# Altium schematic symbol library M7_DSP.SchLib: 35 symbols
Pins are listed as number, name and electrical type; pins without a type are passive.

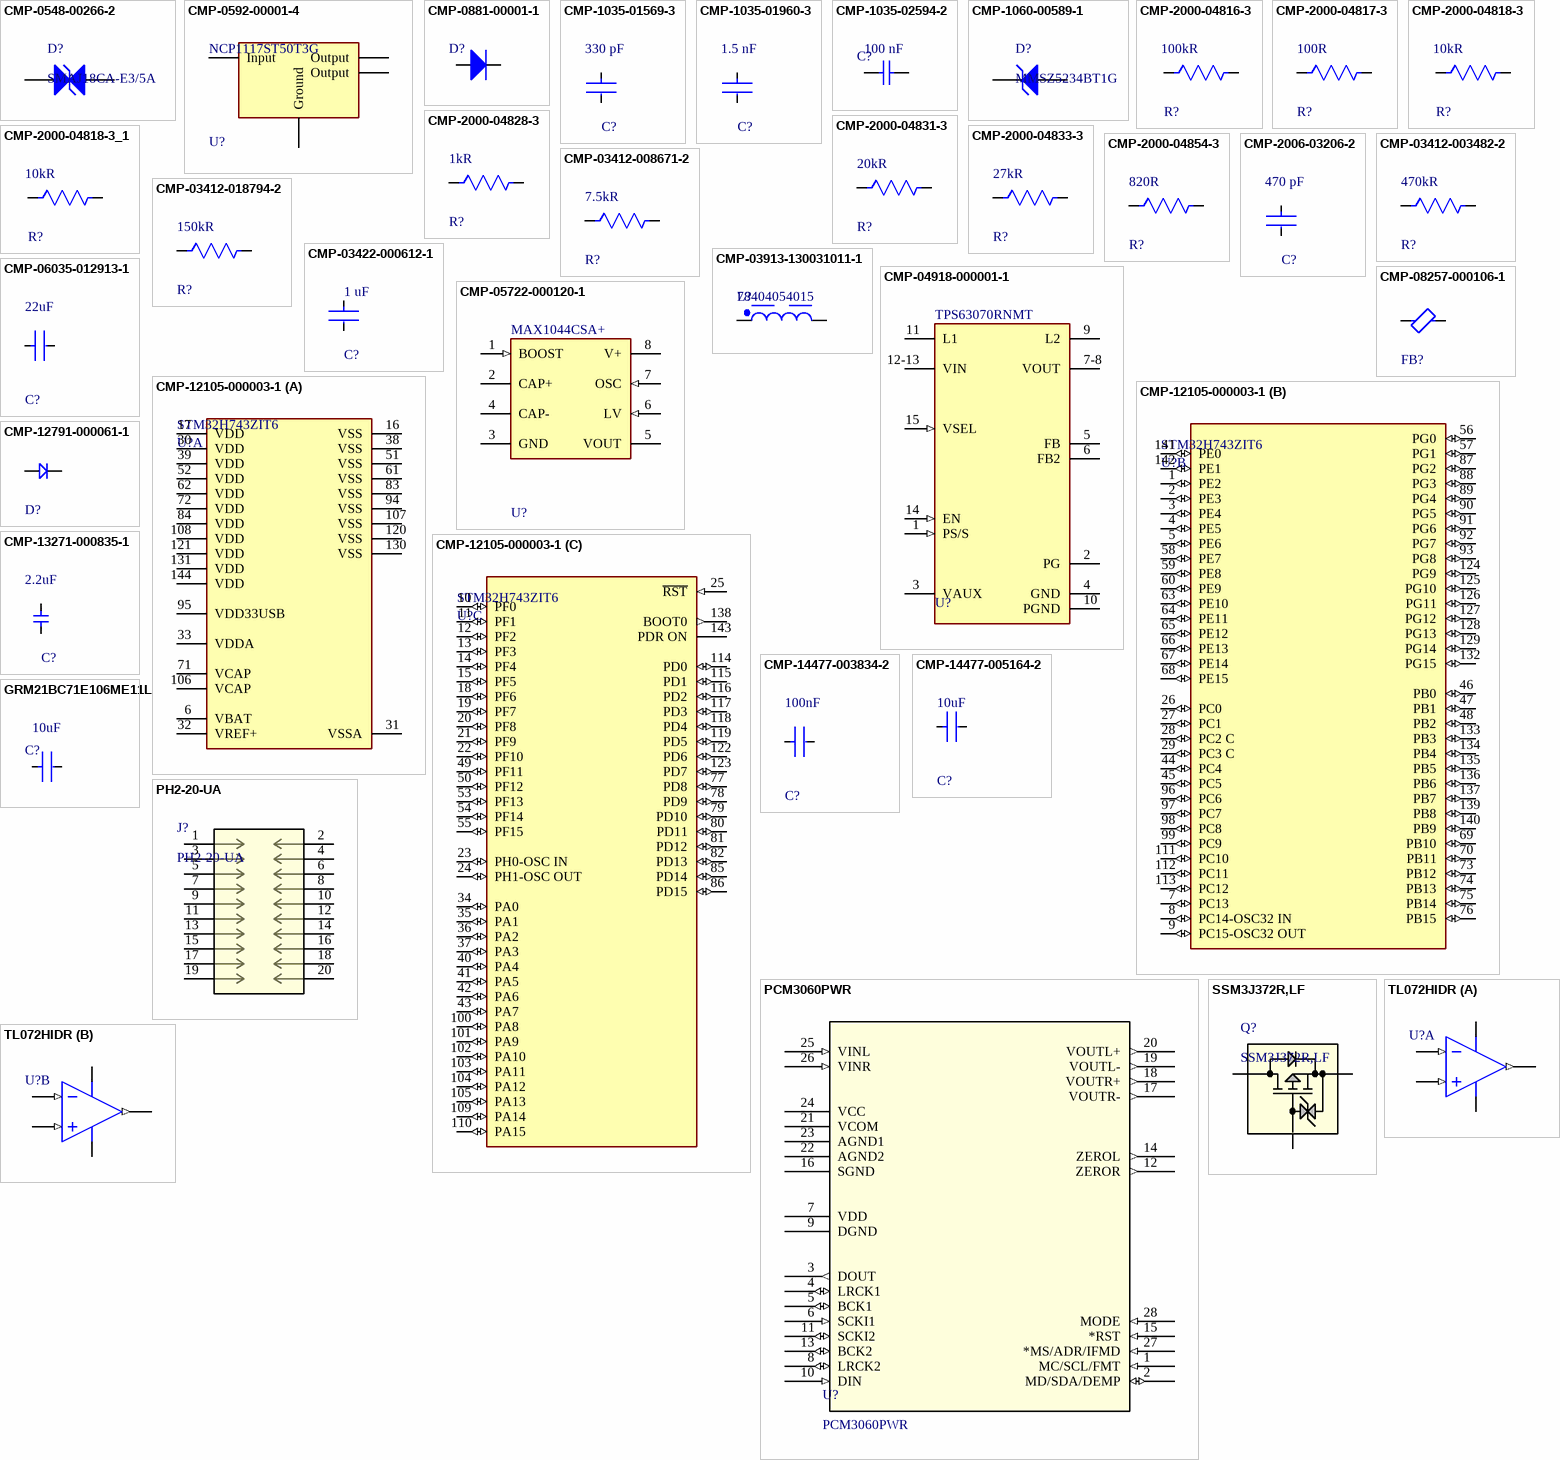
[diagram p0: symbols CMP-0548-00266-2 to TL072HIDR]

## CMP-0548-00266-2
designator D?, comment SMAJ18CA-E3/5A
Transient Voltage Suppressor, 6.40 to 231 V, 18 V Stand-off Voltage, Bi-Directional, -55 to 155 degC, 2-pin DO-214AC, Pb-Free, Tape and Reel; Manufacturer: Vishay Semiconductor; VWM (V): 18; VBR Bi-Directional (V): 6.4 to 231; ID (uA): 2; IFSM: 40 A; PPPM (W): 400, 300; ComponentLink1URL: http://www.vishay.com/; PackageDescription: 2-Pin DO-214AC (SMA), Body 4.245 x 2.665 mm; ComponentLink2URL: http://www.vishay.com/docs/88390/smaj50a.pdf; Packing: Tape and Reel; DatasheetVersion: 12/8/2013; RoHS: TRUE; ComponentLink2Description: Datasheet; Mounting Technology: Surface Mount; PackageReference: DO-214AC-2; PartNumber: SMAJ18CA-E3/5A; ComponentLink1Description: Manufacturer URL; Operating Junction and Storage Temperature Range: -55 to 150 degC; ComponentLink3Description: Package Specification; ComponentLink3URL: http://www.vishay.com/docs/88390/smaj50a.pdf; Supplier 1: Mouser; Supplier Part Number 1: 625-SMAJ18CA-E3/5A
footprint VISH-DO-214AC-2_L (DO-214AC, 2-Leads, Body 4.5x2.79mm, IPC High Density)
footprint VISH-DO-214AC-2_N (DO-214AC, 2-Leads, Body 4.5x2.79mm, IPC Medium Density)
footprint VISH-DO-214AC-2_M (DO-214AC, 2-Leads, Body 4.5x2.79mm, IPC Low Density)
pins: 1 A1, 2 A2

## CMP-0592-00001-4
designator U?, comment NCP1117ST50T3G
IC REG LINEAR 5V 1A SOT223; Output Voltage Accuracy: 1%; Number of Outputs: 1; Dropout Voltage: 1.2V; Polarity: Positive; Power Rating: 781mW; Input Bias Current: 6mA; Quiescent Current: 10mA; Output Type: Fixed; Max Input Voltage: 20V; Min Input Voltage: 3.5V; Max Operating Temperature: 125°C; Number of Pins: 4; Case/Package: SOT-223; Min Operating Temperature: 0°C; Accuracy: 1%; Contact Plating: Tin; Min Current Limit: 1A; Output Current: 1A; Max Output Current: 1A; Length: 6.7mm; Packaging: Tape and Reel; Package Quantity: 1; Height: 1.69mm; REACH SVHC: No SVHC; Width: 3.7mm; Halogen Free: Halogen Free; RoHS Compliant: Yes; Nominal Output Voltage: 5V; Lead Free: Lead Free; Radiation Hardening: No; Tolerance: 1%; Number of Regulators: 1; Output Voltage: 5V; Supplier 1: Digikey; Supplier Part Number 1: NCP1117ST50T3GOSCT-ND
footprint FP-318H-MFG
pins: 1 Ground (power), 2 Output (power), 3 Input (power), 4 Output (power)

## CMP-0881-00001-1
designator D?, comment 1N4148WT  (value not drawn)
High Conductance Fast Switching Diode, 75 V, -55 to 150 degC, 2-Pin SOD523F, RoHS; Manufacturer: Fairchild Semiconductor; IR (VR: 75 V)=5 uA Max.; VF: 1 V Max.; BVR (IR: 5 uA)=75 V Min.; CO: 4 pF Max.; DatasheetVersion: Rev. A2; ComponentLink1Description: Manufacturer URL; PackageDescription: 2-Pin Surface Mount Device, Body 1.2 x 0.8 mm, Height 0.7 mm; ComponentLink2URL: http://www.fairchildsemi.com/ds/1N/1N4148WT.pdf; ComponentLink2Description: Datasheet; PartNumber: 1N4148WT; ComponentLink1URL: http://www.fairchildsemi.com/; Temperature Range: -55 to 150 degC; Mounting Technology: Surface Mount; PackageReference: SOD-523F-2; RoHS: TRUE; Supplier 1: Future Electronics; Supplier Part Number 1: 4906632
footprint FAIR-SOD-523F-2_V (SMD, 2-Leads, Body 1.2x0.8mm, Height 0.7mm)
pins: 1 K, 2 A

## CMP-1035-01569-3
designator C?, comment value 330 pF  (hidden comment: C0603C331F5GACTU)
CAP CER 330PF 50V 1% NP0 0603; Manufacturer: KEMET; Temperature Coefficient: 30ppm/°C; Temperature Characteristic: C0G; Material: Ceramic; Tolerance: 0.01; Automotive Grade: Grade 1; Voltage Rating: 50 V; Temperature: -55°C to +125°C; Temperature Range High: +125°C; ComponentLink2Description: Datasheet; Automotive: Yes; Octopart: https://octopart.com/c0603c331f5gactu-kemet-9142706; Temperature Range Low: -55°C; ComponentLink2URL: https://api.kemet.com/component-edge/download/datasheet/C0603C100J5GACAUTO.pdf; Device Class L1: Passive Components; Mouser Description: Multilayer Ceramic Capacitors MLCC - SMD/SMT 50volts 330pF C0G 1%; Capacitance: 330 pF; Device Class L3: Ceramic Capacitors; Manufacturer Part Number: C0603C331F5GACTU; Height: 0.87mm; RoHS: TRUE; Device Class L2: Capacitors; Package: C0603C-CF; Digikey Description: CAP CER 330PF 50V 1% NP0 0603; Category: Cap; Lead Free: Yes; Supplier 1: Mouser; Supplier Part Number 1: 80-C0603C331F5G
footprint FP-C0603C-CF-IPC_B
footprint FP-C0603C-CF-MFG
footprint FP-C0603C-CF-IPC_A
footprint FP-C0603C-CF-IPC_C
pins: 1, 2

## CMP-1035-01960-3
designator C?, comment Capacitance: 1.5 nF  (hidden comment: C0603C152F5GACTU)
Cap Ceramic 0.0015uF 50V C0G 1% SMD 0603 125°C Punched Paper T/R; Manufacturer: KEMET; Automotive Grade: Grade 1; Temperature Coefficient: 30ppm/°C; Tolerance: 0.01; Value: 1.5 nF; ComponentLink2Description: Datasheet; Lead Free: Yes; Digikey Description: Cap Ceramic 0.0015uF 50V C0G 1% SMD 0603 125°C Punched Paper T/R; Temperature: -55°C to +125°C; Voltage Rating: 50 V; Category: Cap; Device Class L2: Capacitors; Temperature Range Low: -55°C; Temperature Characteristic: C0G; Package: C0603C-CF; Manufacturer Part Number: C0603C152F5GACTU; Octopart: https://octopart.com/c0603c152f5gactu-kemet-10304761; ComponentLink2URL: https://api.kemet.com/component-edge/download/datasheet/C0603C100J5GACAUTO.pdf; Material: Ceramic; Automotive: Yes; RoHS: TRUE; Device Class L1: Passive Components; Device Class L3: Ceramic Capacitors; Mouser Description: Cap Ceramic 0.0015uF 50V C0G 1% SMD 0603 125°C Punched Paper T/R; Height: 0.87mm; Temperature Range High: +125°C; Supplier 1: Mouser; Supplier Part Number 1: 80-C0603C152F5G
footprint FP-C0603C-CF-IPC_B
footprint FP-C0603C-CF-MFG
footprint FP-C0603C-CF-IPC_A
footprint FP-C0603C-CF-IPC_C
pins: 1, 2

## CMP-1035-02594-2
designator C?, comment Capacitance: 100 nF  (hidden comment: CC0603ZRY5V9BB104)
Chip Capacitor, 100 nF, - 20% to + 80%, 50 V, -30 to 85 degC, 0603 (1608 Metric), RoHS, Tape and Reel; Manufacturer: Yageo; Tolerance: -20%,+80%; Product Training Modules: MultilayerCeramicCapacitors; Temperature Coefficient: Y5V(F); Kits: CC060300000000000-ND-MLCC0603SAMPLEKIT; Other Names: 311-1343-1; Featured Product: CommodityMultilayerCeramicCapacitors–CCSeries; Online Catalog: CCSeries; Voltage - Rated: 50V; Mounting Type: SurfaceMount,MLCC; Package Description: 2-Pin Surface Mount Device, Body 1.6 x 0.8 mm; Ratings: -; Lead Spacing: -; Standard Package: 1; Applications: GeneralPurpose; Size / Dimension: 0.063"Lx0.031"W(1.60mmx0.80mm); Package Reference: 0603; Operating Temperature: -30°C~85°C; Features: -; Height - Seated (Max): -; Thickness (Max): 0.035"(0.90mm); Series: CC; Datasheet URL: https://datasheet.ciiva.com/17434/upy-gphc-y5v-6-3v-to-50v-5-17434523.pdf; Family: CeramicCapacitors; Mounting Technology: SurfaceMount; Packaging: CutTape(CT); Package / Case: 0603(1608Metric); Manufacturer URL: http://www.yageo.com/; Category: Capacitors; Lead Style: -; Datasheet Version: Rev. 5, 07/2010; Supplier 1: Rs; Supplier Part Number 1: 6169565
footprint CAPC1608X90X40ML10T20 (Chip Capacitor, 2-Leads, Body 1.7x0.9mm, IPC Low Density)
footprint CAPC1608X90X40LL10T20 (Chip Capacitor, 2-Leads, Body 1.70x0.90mm, IPC High Density)
footprint CAPC1608X90X40NL10T20 (Chip Capacitor, 2-Leads, Body 1.70x0.90mm, IPC Medium Density)
pins: 1, 2

## CMP-1060-00589-1
designator D?, comment MMSZ5234BT1G
Zener Voltage Regulator, 500 mW, 2-Pin SOD-123, Pb-Free, Tape and Reel; Manufacturer: On Semiconductor; P Max (W): 0.5; VZ Typ (V): 6.2; ComponentLink3Description: Package Specification; PartNumber: MMSZ5234BT1G; ComponentLink2Description: Datasheet; Packing: Tape and Reel; Mounting Technology: Surface Mount; ComponentLink3URL: http://www.onsemi.com/pub_link/Collateral/425-04.PDF; DatasheetVersion: Rev. 12; ComponentLink1Description: Manufacturer URL; PackageDescription: 2-Pin SOD, Body 1.6 x 2.69 mm; PackageVersion: Rev. G, 10/2009; ComponentLink2URL: http://www.onsemi.com/pub_link/Collateral/MMSZ5221BT1-D.PDF; RoHS: Pb-Free; ComponentLink1URL: http://www.onsemi.com/; PackageReference: SOD-123-2-425-04; Supplier 1: Future Electronics; Supplier Part Number 1: 5159872
footprint ONSC-SOD-123-2-425-04_V (SOD, 2-Leads, Body 2.69x1.6mm)
pins: 1 K, 2 A

## CMP-2000-04816-3
designator R?, comment Resistance: 100kR  (hidden comment: AC0603FR-07100KL)
RES 100KΩ 1.00% 0.1W 0603; Temperature Coefficient: 100ppm/°C; Voltage Rating: 50V; Max Power Dissipation: 100mW; Tolerance: 1%; Working Voltage: 75V; Min Operating Temperature: -55°C; Case Code (Imperial): 0603; Width: 0.031inch; Max Operating Temperature: 155°C; Military Standard: Not; Technology: THICK FILM; Ratings: AEC-Q200; Features: Moisture Resistant; Construction: Rectangular; Resistor Type: Thick Film; RoHS Compliant: Yes; Case Code (Metric): 1608; Termination: SMD/SMT; Series: AC; Lead Free: Lead Free; Length: 1.6mm; Depth: 0.8mm; Height: 0.022inch; Power Rating: 100mW; Package Quantity: 1; Packaging: Tape and Reel; Case/Package: 0603; Number of Terminations: 2; Moisture Sensitivity Level: 1; Supplier 1: Future Electronics; Supplier Part Number 1: 6029288
footprint FP-AC0603-IPC_C
footprint FP-AC0603-IPC_B
footprint FP-AC0603-MFG
footprint FP-AC0603-IPC_A
pins: 1, 2

## CMP-2000-04817-3
designator R?, comment Resistance: 100R  (hidden comment: AC0603FR-07100RL)
RES 100Ω 1.00% 0.1W 0603; Temperature Coefficient: 100ppm/°C; Voltage Rating: 50V; Max Power Dissipation: 100mW; Tolerance: 1%; Series: AC; Height: 0.45mm; Max Operating Temperature: 155°C; Depth: 0.8mm; Lead Free: Lead Free; Packaging: Tape and Reel; Min Operating Temperature: -55°C; Number of Terminations: 2; Length: 1.6mm; RoHS Compliant: Yes; Contact Plating: Tin; Construction: Rectangular; Radiation Hardening: No; Width: 0.8mm; Power Rating: 100mW; Ratings: AEC-Q200; Termination: SMD/SMT; Resistor Type: Thick Film; Weight: 7.1E-05oz; Case Code (Metric): 1608; Military Standard: Not; Case Code (Imperial): 0603; Size Code: 0603; Features: Moisture Resistant; Case/Package: 0603; Supplier 1: Future Electronics; Supplier Part Number 1: 2026405
footprint FP-AC0603-IPC_C
footprint FP-AC0603-IPC_B
footprint FP-AC0603-MFG
footprint FP-AC0603-IPC_A
pins: 1, 2

## CMP-2000-04818-3
designator R?, comment Resistance: 10kR  (hidden comment: AC0603FR-0710KL)
RES 10KΩ 1.00% 0.1W 0603; Power Rating: 100mW; Tolerance: 1%; Voltage Rating: 50V; Temperature Coefficient: 100ppm/°C; Ratings: AEC-Q200; Case Code (Metric): 1608; Max Power Dissipation: 100mW; Height: 0.45mm; Package Quantity: 1; Max Operating Temperature: 155°C; Resistor Type: Thick Film; Depth: 0.8mm; RoHS Compliant: Yes; Min Operating Temperature: -55°C; Packaging: Tape and Reel; Number of Terminations: 2; Length: 1.6mm; Features: Moisture Resistant; Military Standard: Not; Case Code (Imperial): 0603; Size Code: 0603; Termination: SMD/SMT; Case/Package: 0603; Mount: Surface Mount; Width: 0.8mm; Lead Free: Lead Free; Series: AC; Construction: Rectangular; Supplier 1: Future Electronics; Supplier Part Number 1: 2029400
footprint FP-AC0603-IPC_C
footprint FP-AC0603-IPC_B
footprint FP-AC0603-MFG
footprint FP-AC0603-IPC_A
pins: 1, 2

## CMP-2000-04818-3_1
designator R?, comment Resistance: 10kR  (hidden comment: AC0603FR-0710KL)
RES 10KΩ 1.00% 0.1W 0603; Power Rating: 100mW; Tolerance: 1%; Voltage Rating: 50V; Temperature Coefficient: 100ppm/°C; Ratings: AEC-Q200; Case Code (Metric): 1608; Max Power Dissipation: 100mW; Height: 0.45mm; Package Quantity: 1; Max Operating Temperature: 155°C; Resistor Type: Thick Film; Depth: 0.8mm; RoHS Compliant: Yes; Min Operating Temperature: -55°C; Packaging: Tape and Reel; Number of Terminations: 2; Length: 1.6mm; Features: Moisture Resistant; Military Standard: Not; Case Code (Imperial): 0603; Size Code: 0603; Termination: SMD/SMT; Case/Package: 0603; Mount: Surface Mount; Width: 0.8mm; Lead Free: Lead Free; Series: AC; Construction: Rectangular; Supplier 1: Future Electronics; Supplier Part Number 1: 2029400
footprint FP-AC0603-IPC_C
footprint FP-AC0603-IPC_B
footprint FP-AC0603-MFG
footprint FP-AC0603-IPC_A
pins: 1, 2

## CMP-2000-04828-3
designator R?, comment Resistance: 1kR  (hidden comment: AC0603FR-071KL)
RES 1kΩ 1.00% 0.1W 0603; Voltage Rating: 50V; Power Rating: 100mW; Tolerance: 1%; Temperature Coefficient: 100ppm/°C; Depth: 0.8mm; Case/Package: 0603; Size Code: 0603; Case Code (Metric): 1608; Height: 0.022inch; Series: AC; Width: 0.031inch; Construction: Rectangular; Length: 0.063inch; Case Code (Imperial): 0603; Package Quantity: 1; RoHS Compliant: Yes; Features: Moisture Resistant; Resistor Type: Thick Film; Max Power Dissipation: 100mW; Packaging: Tape and Reel; Termination: SMD/SMT; Ratings: AEC-Q200; Max Operating Temperature: 155°C; Min Operating Temperature: -55°C; Military Standard: Not; Lead Free: Lead Free; Number of Terminations: 2; Supplier 1: Future Electronics; Supplier Part Number 1: 1029290
footprint FP-AC0603-IPC_C
footprint FP-AC0603-IPC_B
footprint FP-AC0603-MFG
footprint FP-AC0603-IPC_A
pins: 1, 2

## CMP-2000-04831-3
designator R?, comment Resistance: 20kR  (hidden comment: AC0603FR-0720KL)
RES 20KΩ 1.00% 0.1W 0603; Power Rating: 100mW; Temperature Coefficient: 100ppm/°C; Tolerance: 1%; Voltage Rating: 50V; Width: 0.8mm; Case Code (Metric): 1608; Max Operating Temperature: 155°C; Ratings: AEC-Q200; Min Operating Temperature: -55°C; Number of Terminations: 2; RoHS Compliant: Yes; Resistor Type: Thick Film; Height: 0.45mm; Lead Free: Lead Free; Max Power Dissipation: 100mW; Case Code (Imperial): 0603; Case/Package: 0603; Length: 1.6mm; Features: Moisture Resistant; Series: AC; Termination: SMD/SMT; Packaging: Tape and Reel; Supplier 1: Future Electronics; Supplier Part Number 1: 5026404
footprint FP-AC0603-IPC_C
footprint FP-AC0603-IPC_B
footprint FP-AC0603-MFG
footprint FP-AC0603-IPC_A
pins: 1, 2

## CMP-2000-04833-3
designator R?, comment Resistance: 27kR  (hidden comment: AC0603FR-0727KL)
RES 27KΩ 1.00% 0.1W 0603; Power Rating: 100mW; Tolerance: 1%; Temperature Coefficient: 100ppm/°C; Voltage Rating: 50V; Weight: 7.1E-05oz; Resistor Type: Thick Film; Termination: SMD/SMT; Min Operating Temperature: -55°C; Packaging: Tape and Reel; Max Power Dissipation: 100mW; Length: 1.6mm; Series: AC; Ratings: AEC-Q200; Case Code (Imperial): 0603; RoHS Compliant: Yes; Height: 0.45mm; Max Operating Temperature: 155°C; Case Code (Metric): 1608; Features: Moisture Resistant; Width: 0.8mm; Case/Package: 0603; Number of Terminations: 2; Supplier 1: Future Electronics; Supplier Part Number 1: 4029678
footprint FP-AC0603-IPC_C
footprint FP-AC0603-IPC_B
footprint FP-AC0603-MFG
footprint FP-AC0603-IPC_A
pins: 1, 2

## CMP-2000-04854-3
designator R?, comment Resistance: 820R  (hidden comment: AC0603FR-07820RL)
RES 820Ω 1.00% 0.1W 0603; Temperature Coefficient: 100ppm/°C; Working Voltage: 75V; Tolerance: 1%; Voltage Rating: 50V; Max Power Dissipation: 100mW; Case/Package: 0603; Resistor Type: Thick Film; Ratings: AEC-Q200; Length: 1.6mm; Mount: Surface Mount; Width: 0.8mm; Height: 0.45mm; Case Code (Metric): 1608; RoHS Compliant: Yes; Technology: THICK FILM; Packaging: Tape and Reel; Lead Free: Lead Free; Max Operating Temperature: 155°C; Features: Moisture Resistant; Number of Terminations: 2; Series: AC; Case Code (Imperial): 0603; Moisture Sensitivity Level: 1; Min Operating Temperature: -55°C; Power Rating: 100mW; Termination: SMD/SMT; Supplier 1: Future Electronics; Supplier Part Number 1: 8029296
footprint FP-AC0603-IPC_C
footprint FP-AC0603-IPC_B
footprint FP-AC0603-MFG
footprint FP-AC0603-IPC_A
pins: 1, 2

## CMP-2006-03206-2
designator C?, comment Capacitance: 470 pF  (hidden comment: C0603C471F5GACTU)
CAP CER 470PF 50V 1% NP0 0603; Manufacturer: KEMET; Temperature Coefficient: 30ppm/°C; Tolerance: 0.01; Temperature Characteristic: C0G; Automotive Grade: Grade 1; Material: Ceramic; Temperature Range Low: -55°C; ComponentLink2Description: Datasheet; Digikey Description: CAP CER 470PF 50V 1% NP0 0603; Manufacturer Part Number: C0603C471F5GACTU; Device Class L1: Passive Components; Category: Cap; ComponentLink2URL: https://api.kemet.com/component-edge/download/datasheet/C0603C100J5GACAUTO.pdf; Automotive: Yes; Package: C0603C-CF; Value: 470 pF; Octopart: https://octopart.com/c0603c471f5gactu-kemet-9143748; Device Class L3: Ceramic Capacitors; Device Class L2: Capacitors; Temperature Range High: +125°C; RoHS: TRUE; Lead Free: Yes; Height: 0.87mm; Voltage Rating: 50 V; Temperature: -55°C to +125°C; Mouser Description: Cap Ceramic 470pF 50V C0G 1% SMD 0603 125°C Paper T/R; Supplier 1: Mouser; Supplier Part Number 1: 80-C0603C471F5G
footprint FP-C0603C-CF-IPC_B
footprint FP-C0603C-CF-MFG
footprint FP-C0603C-CF-IPC_A
footprint FP-C0603C-CF-IPC_C
pins: 1, 2

## CMP-03412-003482-2
designator R?, comment Resistance: 470kR  (hidden comment: AC0603FR-07470KL)
RES 470KΩ 1.00% 0.1W 0603; Voltage Rating: 50V; Max Power Dissipation: 100mW; Tolerance: 1%; Temperature Coefficient: 100ppm/°C; RoHS Compliant: Yes; Width: 0.8mm; Military Standard: Not; Number of Terminations: 2; Case/Package: 0603; Min Operating Temperature: -55°C; Length: 1.6mm; Construction: Rectangular; Power Rating: 100mW; Ratings: AEC-Q200; Height: 0.45mm; Packaging: Tape and Reel; Case Code (Imperial): 0603; Case Code (Metric): 1608; Termination: SMD/SMT; Max Operating Temperature: 155°C; Features: Moisture Resistant; Series: AC; Depth: 0.8mm; Resistor Type: Thick Film; Supplier 1: Future Electronics; Supplier Part Number 1: 7097719
footprint FP-AC0603-IPC_C
footprint FP-AC0603-IPC_B
footprint FP-AC0603-MFG
footprint FP-AC0603-IPC_A
pins: 1, 2

## CMP-03412-008671-2
designator R?, comment Resistance: 7.5kR  (hidden comment: AC0603FR-077K5L)
RES 7.5KΩ 1.00% 0.1W 0603; Voltage Rating: 50V; Tolerance: 1%; Max Power Dissipation: 100mW; Temperature Coefficient: 100ppm/°C; Case Code (Imperial): 0603; RoHS Compliant: Yes; Height: 0.45mm; Resistor Type: Thick Film; Number of Terminations: 2; Termination: SMD/SMT; Packaging: Tape and Reel; Length: 1.6mm; Width: 0.8mm; Min Operating Temperature: -55°C; Lead Free: Lead Free; Case/Package: 0603; Features: Moisture Resistant; Ratings: AEC-Q200; Power Rating: 100mW; Max Operating Temperature: 155°C; Case Code (Metric): 1608; Series: AC; Supplier 1: Future Electronics; Supplier Part Number 1: 7029296
footprint FP-AC0603-IPC_C
footprint FP-AC0603-IPC_B
footprint FP-AC0603-MFG
footprint FP-AC0603-IPC_A
pins: 1, 2

## CMP-03412-018794-2
designator R?, comment Resistance: 150kR  (hidden comment: AC0603FR-07150KL)
RES 150KΩ 1.00% 0.1W 0603; Power Rating: 100mW; Voltage Rating: 50V; Tolerance: 1%; Temperature Coefficient: 100ppm/°C; Ratings: AEC-Q200; Resistor Type: Thick Film; Series: AC; Termination: SMD/SMT; Width: 0.8mm; Weight: 7.1E-05oz; Height: 0.45mm; Min Operating Temperature: -55°C; Number of Terminations: 2; RoHS Compliant: Yes; Length: 1.6mm; Case Code (Metric): 1608; Features: Moisture Resistant; Max Power Dissipation: 100mW; Case Code (Imperial): 0603; Case/Package: 0603; Max Operating Temperature: 155°C; Packaging: Tape and Reel; Supplier 1: Future Electronics; Supplier Part Number 1: 5095701
footprint FP-AC0603-IPC_C
footprint FP-AC0603-IPC_B
footprint FP-AC0603-MFG
footprint FP-AC0603-IPC_A
pins: 1, 2

## CMP-03422-000612-1
designator C?, comment Capacitance: 1 uF  (hidden comment: CC0603KRX5R8BB105)
CAP CER 1UF 25V X5R 0603; Manufacturer: YAGEO; Material: Ceramic; Tolerance: 0.1; Temperature Coefficient: 15%; Automotive: No; Octopart: https://octopart.com/cc0603krx5r8bb105-yageo-9292811; Package: CC0603-DA; Temperature Range High: +125°C; Digikey Description: CAP CER 1UF 25V X5R 0603; Mouser Description: Multilayer Ceramic Capacitors MLCC - SMD/SMT 1.0uF 25V X5R 10%; Device Class L2: Capacitors; Category: Cap; Temperature: -55°C to +125°C; ComponentLink2URL: http://www.yageo.com/documents/recent/UPY-GPHC_X7R_6.3V-to-50V_18.pdf; ComponentLink2Description: Datasheet; Voltage: 25 V; Manufacturer Part Number: CC0603KRX5R8BB105; Height: 0.9mm; Device Class L3: Ceramic Capacitors; Temperature Characteristic: X5R; Footprint Url: http://www.yageo.com/exep/pages/download/literatures/UPY-C_GEN_24.pdf; Temperature Range Low: -55°C; Device Class L1: Passive Components; Voltage Rating: 25 V; Lead Free: Yes; RoHS: TRUE; Value: 1 uF; Supplier 1: Future Electronics; Supplier Part Number 1: 5636071
footprint FP-CC0603-DA-IPC_B
footprint FP-CC0603-DA-IPC_A
footprint FP-CC0603-DA-IPC_C
footprint FP-CC0603-DA-MFG
pins: 1, 2

## CMP-03913-130031011-1
designator L?, comment 78404054015
78404054015 Power Inductor, Smd, 1.5Uh, 5.22A Rohs Compliant: Yes |Wurth Elektronik 78404054015; NexarPartId: 130031011; DC Resistance (DCR): 15mΩ; Inductance: 1.5µH; Voltage Rating: 80V; Height: 4mm; Current Rating: 5.22A; RoHS: Compliant; Width: 5mm; Max Operating Temperature: 150°C; Ambient Temperature Range High: 100°C; Length: 5mm; Min Operating Temperature: -50°C; Ambient Temperature Range Low: -50°C; Supplier 1: Rs; Supplier Part Number 1: 2591077P
footprint WE-LQSA_5040 (SMD Power Inductor, body 5.00x5.00mm)
pins: 1, 2

## CMP-04918-000001-1
designator U?, comment TPS63070RNMT
IC REG BCK BST ADJ 2A 15VQFN; Manufacturer: Texas Instruments; Number Of Outputs: 1; Max Duty Cycle: 100%; Output Type: AdjustableProgrammable; Max Supply Voltage: 16V; Max Junction Temp: +125°C; Switching Topology: Buck-Boost; Output Voltage: 2.5-9V; Standoff Height: 0mm; Min Supply Voltage: 2V; Switching Frequency: 2400kHz; Nominal Supply Current: 5-54uA; Temperature: -40°C to +125°C; Manufacturer Part Number: TPS63070RNMT; Device Class L1: Integrated Circuits (ICs); RoHS: TRUE; Package: RNM0015A; Octopart: https://octopart.com/tps63070rnmt-texas+instruments-75117739; Output Current: 2A; Device Class L3: Voltage Regulators - Switching; Temperature Range High: +125°C; ComponentLink2Description: Datasheet; ComponentLink2URL: http://www.ti.com/lit/ds/symlink/tps63070.pdf; Lead Free: Yes; Device Class L2: Power Management ICs; Automotive: No; Height: 1mm; Temperature Range Low: -40°C; Category: IC; Digikey Description: IC REG BCK BST ADJ 2A 15VQFN; Supplier 1: Mouser; Supplier Part Number 1: 595-TPS63070RNMT
footprint FP-RNM0015A-MFG
pins: 1 PS/S (in), 2 PG (oc), 3 VAUX, 4 GND (power), 5 FB, 6 FB2, 7-8 VOUT (power), 9 L2, 10 PGND (power), 11 L1, 12-13 VIN (power), 14 EN (in), 15 VSEL (in)

## CMP-05722-000120-1
designator U?, comment MAX1044CSA+
IC REG CHARG PUMP INV 20MA 8SOIC; Manufacturer: Maxim Integrated; Switching Topology: Charge Pump; Max Supply Voltage: 10V; Min Supply Voltage: 1.5V; Number Of Outputs: 1; Standoff Height: 0.1mm; Negative Voltage Available: true; Switching Frequency: 5kHz; Nominal Supply Current: 30uA; Output Voltage: -10/+20V; Max Power Dissipation: 471mW; Output Type: Fixed; Temperature: 0°C to +70°C; RoHS: TRUE; Device Class L2: Power Management ICs; ComponentLink2URL: https://datasheets.maximintegrated.com/en/ds/ICL7660-MAX1044.pdf; Temperature Range Low: 0°C; Height: 1.75mm; Digikey Description: IC REG CHARG PUMP INV 20MA 8SOIC; ComponentLink2Description: Datasheet; Package: S8-2; Category: IC; Octopart: https://octopart.com/max1044csa%2B-maxim+integrated-39423364; Footprint Url: https://pdfserv.maximintegrated.com/land_patterns/90-0096.PDF; Mouser Description: Switching Voltage Regulators Switched-Capacitor Voltage Converter; Temperature Range High: +70°C; Lead Free: Yes; Device Class L3: Voltage Regulators - Switching; Output Current: 20mA; Manufacturer Part Number: MAX1044CSA+; Automotive: No; Device Class L1: Integrated Circuits (ICs); Supplier 1: Mouser; Supplier Part Number 1: 700-MAX1044CSA
footprint FP-S8-2-IPC_A
footprint FP-S8-2-MFG
footprint FP-S8-2-IPC_B
footprint FP-S8-2-IPC_C
pins: 1 BOOST (in), 2 CAP+ (power), 3 GND (power), 4 CAP- (power), 5 VOUT (power), 6 LV (in), 7 OSC (in), 8 V+ (power)

## CMP-06035-012913-1
designator C?, comment Capacitance: 22uF  (hidden comment: GRM21BC81C226ME44L)
Chip Multilayer Ceramic Capacitors for General Purpose, 0805, 22uF, X6S, 22%, 20%, 16V; Packaging: Tape and Reel; Dielectric: X6S; Case Code (Imperial): 0805; Weight: 0.000335oz; Case Code (Metric): 2012; Thickness: 0.057inch; Min Operating Temperature: -55°C; Voltage Rating (DC): 16V; Tolerance: 20%; Width: 1.25mm; Voltage Rating: 16V; Mount: Surface Mount; Length: 0.079inch; Lead Free: Lead Free; Case/Package: 0805; Package Quantity: 3000; Height: 1.25mm; Max Operating Temperature: 105°C; Termination: SMD/SMT; Supplier 1: Rs; Supplier Part Number 1: 2478094
footprint FP-GRM21B-0_2-e0_2_0_7-MFG
pins: 1, 2

## CMP-08257-000106-1
designator FB?, comment MMZ1608B601CTAH0  (value not drawn)
Signal Line Ferrite Bead 600 Ω 100MHz 500mA DCR 400mΩ SMD 0603; Tolerance: 25%; Impedance: 600R; DC Resistance (DCR): 400mR; Packaging: Cut Tape; Depth: 0.8mm; Case Code (Metric): 1608; Mount: Surface Mount; REACH SVHC: No SVHC; Case/Package: 0603; Max DC Current: 500mA; Height: 0.03inch; Case Code (Imperial): 0603; Package Quantity: 1; RoHS Compliant: Yes; Core Material: Ferrite; Length: 0.063inch; Current Rating: 500mA; Width: 0.031inch; Supplier 1: Rs; Supplier Part Number 1: 7865015
footprint FP-MMZ1608-0_6-IPC_C
footprint FP-MMZ1608-0_6-IPC_A
footprint FP-MMZ1608-0_6-MFG
footprint FP-MMZ1608-0_6-IPC_B
pins: 1, 2

## CMP-12105-000003-1
designator U?, comment STM32H743ZIT6
IC MCU 32BIT 2MB FLASH 144LQFP; Manufacturer: STMicroelectronics; Number Of I2C Channels: 4; Number Of A/D Converters: 2; Standoff Height: 0.05mm; Interface: I2C,SPI,UART,USART,EBI/EMI,CAN,USB,LIN,IrDA,Other; Max Supply Voltage: 3.6V; Number Of Adc Channels: 36; Ram Size: 1MBytes; Number Of Cores: 1; Frequency: 400MHz; Data Bus Width: 32bits; Core Architecture: ARM Cortex-M7; Memory Size: 2MBytes; Number Of Timers/Counters: 22; Min Supply Voltage: 1.62V; Number Of Spi Channels: 6; Max Junction Temp: +125°C; Number Of I/Os: 114; Digikey Description: IC MCU 32BIT 2MB FLASH 144LQFP; Device Class L2: Embedded Processors and Controllers; Number Of Usb Channels: 2; ComponentLink2Description: Datasheet; Ipc Land Pattern Name: QFP50P2200X2200X160-144; Category: IC; Lead Free: Yes; Temperature Range High: +85°C; Mouser Description: MCU 32-Bit STM32 ARM Cortex M7 RISC 2MB Flash 1.8V/2.5V/3.3V 144-Pin LQFP Tray; RoHS: TRUE; Ambient Temperature Range Low: -40°C; Temperature Range Low: -40°C; ComponentLink2URL: https://www.st.com/resource/en/datasheet/stm32h743zi.pdf; Ambient Temperature Range High: +85°C; Octopart: https://octopart.com/stm32h743zit6-stmicroelectronics-76372529; Number Of Pwm Channels: 2; Height: 1.6mm; Manufacturer Part Number: STM32H743ZIT6; Device Class L3: Microcontrollers; Device Class L1: Integrated Circuits (ICs); Automotive: No; Memory Type: FLASH; Number Of Uart Channels: 4; Package: LQFP144-1A; Temperature: -40°C to +85°C; Supplier 1: Mouser; Supplier Part Number 1: 511-STM32H743ZIT6
footprint FP-LQFP144-1A-IPC_B
footprint FP-LQFP144-1A-IPC_A
footprint FP-LQFP144-1A-MFG
footprint FP-LQFP144-1A-IPC_C
part A pins: 6 VBAT (power), 16 VSS (power), 17 VDD (power), 30 VDD (power), 31 VSSA (power), 32 VREF+ (power), 33 VDDA (power), 38 VSS (power), 39 VDD (power), 51 VSS (power), 52 VDD (power), 61 VSS (power), 62 VDD (power), 71 VCAP (power), 72 VDD (power), 83 VSS (power), 84 VDD (power), 94 VSS (power), 95 VDD33USB (power), 106 VCAP (power), 107 VSS (power), 108 VDD (power), 120 VSS (power), 121 VDD (power), 130 VSS (power), 131 VDD (power), 144 VDD (power)
part B pins: 1 PE2 (io), 2 PE3 (io), 3 PE4 (io), 4 PE5 (io), 5 PE6 (io), 7 PC13 (io), 8 PC14-OSC32 IN (io), 9 PC15-OSC32 OUT (io), 26 PC0 (io), 27 PC1 (io), 28 PC2 C (io), 29 PC3 C (io), 44 PC4 (io), 45 PC5 (io), 46 PB0 (io), 47 PB1 (io), 48 PB2 (io), 56 PG0 (io), 57 PG1 (io), 58 PE7 (io), 59 PE8 (io), 60 PE9 (io), 63 PE10 (io), 64 PE11 (io), 65 PE12 (io), 66 PE13 (io), 67 PE14 (io), 68 PE15 (io), 69 PB10 (io), 70 PB11 (io), 73 PB12 (io), 74 PB13 (io), 75 PB14 (io), 76 PB15 (io), 87 PG2 (io), 88 PG3 (io), 89 PG4 (io), 90 PG5 (io), 91 PG6 (io), 92 PG7 (io), 93 PG8 (io), 96 PC6 (io), 97 PC7 (io), 98 PC8 (io), 99 PC9 (io), 111 PC10 (io), 112 PC11 (io), 113 PC12 (io), 124 PG9 (io), 125 PG10 (io), 126 PG11 (io), 127 PG12 (io), 128 PG13 (io), 129 PG14 (io), 132 PG15 (io), 133 PB3 (io), 134 PB4 (io), 135 PB5 (io), 136 PB6 (io), 137 PB7 (io), 139 PB8 (io), 140 PB9 (io), 141 PE0 (io), 142 PE1 (io)
part C pins: 10 PF0 (io), 11 PF1 (io), 12 PF2 (io), 13 PF3 (io), 14 PF4 (io), 15 PF5 (io), 18 PF6 (io), 19 PF7 (io), 20 PF8 (io), 21 PF9 (io), 22 PF10 (io), 23 PH0-OSC IN (io), 24 PH1-OSC OUT (io), 25 ~{RST} (in), 34 PA0 (io), 35 PA1 (io), 36 PA2 (io), 37 PA3 (io), 40 PA4 (io), 41 PA5 (io), 42 PA6 (io), 43 PA7 (io), 49 PF11 (io), 50 PF12 (io), 53 PF13 (io), 54 PF14 (io), 55 PF15 (io), 77 PD8 (io), 78 PD9 (io), 79 PD10 (io), 80 PD11 (io), 81 PD12 (io), 82 PD13 (io), 85 PD14 (io), 86 PD15 (io), 100 PA8 (io), 101 PA9 (io), 102 PA10 (io), 103 PA11 (io), 104 PA12 (io), 105 PA13 (io), 109 PA14 (io), 110 PA15 (io), 114 PD0 (io), 115 PD1 (io), 116 PD2 (io), 117 PD3 (io), 118 PD4 (io), 119 PD5 (io), 122 PD6 (io), 123 PD7 (io), 138 BOOT0 (out), 143 PDR ON (power)

## CMP-12791-000061-1
designator D?, comment US1B-13-F  (value not drawn)
DIODE GEN PURP 100V 1A SMA; Polarity: Standard; Reverse Recovery Time: 50ns; Max Surge Current: 30A; Max Reverse Current: 5uA; Capacitance: 20pF; Forward Voltage: 1V; Element Configuration: Single; Number of Pins: 2; Case/Package: SMA; Packaging: Tape and Reel; Max Reverse Voltage (DC): 100V; Recovery Time: 50ns; Max Operating Temperature: 150°C; Average Rectified Current: 1A; Series: -; Mount: Surface Mount; Package Quantity: 5000; Output Current: 1A; RoHS Compliant: Yes; Max Repetitive Reverse Voltage (Vrrm): 100V; Reverse Voltage (DC): 100V; Weight: 0.002258oz; Voltage Rating (DC): 100V; Forward Current: 1A; Radiation Hardening: No; Length: 4.6mm; Lead Free: Lead Free; Termination: SMD/SMT; Min Operating Temperature: -65°C; Width: 2.92mm; Height: 2.1mm; Reverse Recovery Time-Max: 50ns; Current Rating: 1A; Peak Non-Repetitive Surge Current: 30A; Supplier 1: Future Electronics; Supplier Part Number 1: 2130460
footprint FP-SMA-MFG
pins: 1 C, 2 A

## CMP-13271-000835-1
designator C?, comment Capacitance: 2.2uF  (hidden comment: CL10A225KO8NNNC)
Cap Ceramic 2.2uF 16V X5R ±10% Pad SMD 0603 +85°C T/R; Case Code (Metric): 1608; Height: 0.8mm; Case/Package: 0603; Depth: 0.8mm; Voltage Rating: 16V; Case Code (Imperial): 0603; Length: 1.6mm; Packaging: Tape and Reel; Material: Ceramic; Lead Free: Lead Free; Max Operating Temperature: 85°C; Contact Plating: Tin; Thickness: 0.035inch; Radiation Hardening: No; Tolerance: 10%; Min Operating Temperature: -55°C; Voltage: 16V; Dielectric: X5R; Mount: Surface Mount; Package Quantity: 4000; Width: 0.031inch; Voltage Rating (DC): 16V; Supplier 1: Rs; Supplier Part Number 1: 7664799
footprint FP-CL10-IPC_A
footprint FP-CL10-IPC_C
footprint FP-CL10-IPC_B
pins: 1, 2

## CMP-14477-003834-2
designator C?, comment Capacitance: 100nF  (hidden comment: TMK105B7104MV-FR)
Multilayer Ceramic Capacitors (High dielectric type), 25V, 0.1 uF, ± 20 %, 0402, X7R, RoHS; Manufacturer: Taiyo Yuden; Tolerance: 20%; Value: 100nF; Min Operating Temperature: -55°C; Voltage Rating: 25V; Max Operating Temperature: 125°C; Mount: Surface Mount; RoHS Compliant: Yes; Case/Package: 0402; Packaging: Tape and Reel; Supplier 1: Avnet; Manufacturer Part Number: TMK105B7104MV-FR; RoHS: Yes; Category: Ceramic Capacitors; Stock 1: 20000; Pricing 1: 10000=0.00533, 20000=0.00524, 40000=0.00515, 60000=0.00506, 80000=0.00497 (USD); Mounting Technology: Surface Mount; Series: M; ComponentLink1URL: http://ds.yuden.co.jp/TYCOMPAS/ut/detail.do?productNo=TMK105B7104MV-FR&amp;fileName=TMK105B7104MV-FR_SS&amp;mode=specSheetDownload&src-supplier=Digikey; ComponentLink1Description: http://ds.yuden.co.jp/TYCOMPAS/ut/detail.do?productNo=TMK105B7104MV-FR&amp;fileName=TMK105B7104MV-FR_SS&amp;mode=specSheetDownload&src-supplier=Digikey; Supplier Part Number 1: TMK105B7104MV-FR
footprint FP-0402-L_1_0_0_05-W_0_5-MFG
pins: 1, 2

## CMP-14477-005164-2
designator C?, comment Capacitance: 10uF  (hidden comment: TMK107BBJ106MA-T)
Multilayer Ceramic Capacitor 10uF 25V X5R 20% SMD 0603 T/R; Packaging: Tape and Reel; Tolerance: 20%; Mount: Surface Mount; Case Code (Metric): 1608; Case Code (Imperial): 0603; Min Operating Temperature: -55°C; Lead Free: Lead Free; RoHS Compliant: Yes; Case/Package: 0603; Max Operating Temperature: 85°C; Voltage Rating: 25V; Supplier 1: Rs; Supplier Part Number 1: 1782887
footprint FP-0603-L_1_6_0_2-W_0_8_0-MFG
pins: 1, 2

## GRM21BC71E106ME11L
designator C?  value 10uF  (hidden comment: *)
Multilayer Ceramic Capacitors MLCC - SMD/SMT 0805 10uF 25volts *Derate Voltage/Temp; Manufacturer: Murata; Manufacturer Part Number: GRM21BC71E106ME11L; Voltage Rating: 25V; Tolerance: 20%; Dielectric: X7S; RoHS: Yes; Category: Ceramic Capacitors; Stock 1: 6000; Pricing 1: 3000=0.1097, 9000=0.0994, 24000=0.097, 45000=0.0923 (USD); Mounting Technology: Surface Mount; Case/Package: 0805; Case Code (Metric): 2012; Case Code (Imperial): 0805; Weight: 0.000335oz; Min Operating Temperature: -55°C; Max Operating Temperature: 125°C; Packaging: Tape and Reel; Termination: SMD/SMT; Voltage Rating (DC): 25V; Package Quantity: 3000; Series: GRM; Length: 0.079inch; Width: 0.049inch; Height: 1.25mm; Thickness: 0.057inch; RoHS Compliant: Yes; ComponentLink1URL: http://www.mouser.com/ds/2/281/c02e-2905.pdf?src-supplier=Mouser; ComponentLink1Description: http://www.mouser.com/ds/2/281/c02e-2905.pdf?src-supplier=Mouser; ComponentLink2URL: http://search.murata.co.jp/Ceramy/image/img/A01X/G101/ENG/GRM21BC71E106ME11-01.pdf?src-supplier=Digikey; ComponentLink2Description: http://search.murata.co.jp/Ceramy/image/img/A01X/G101/ENG/GRM21BC71E106ME11-01.pdf?src-supplier=Digikey; ComponentLink3URL: http://search.murata.co.jp/Ceramy/image/img/A01X/partnumbering_e_01.pdf?src-supplier=Digikey; ComponentLink3Description: http://search.murata.co.jp/Ceramy/image/img/A01X/partnumbering_e_01.pdf?src-supplier=Digikey; ComponentLink4URL: https://datasheet.octopart.com/GRM21BC71E106ME11L-Murata-datasheet-149523451.pdf?src-supplier=Newark; ComponentLink4Description: https://datasheet.octopart.com/GRM21BC71E106ME11L-Murata-datasheet-149523451.pdf?src-supplier=Newark; ComponentLink5URL: https://datasheet.octopart.com/GRM21BC71E106ME11L-Murata-datasheet-32479577.pdf?src-supplier=Future+Electronics; ComponentLink5Description: https://datasheet.octopart.com/GRM21BC71E106ME11L-Murata-datasheet-32479577.pdf?src-supplier=Future+Electronics; Supplier Part Number 1: GRM21BC71E106ME11L; Supplier 1: Arrow Electronics
footprint FP-GRM21B-0_2-e0_2_0_7-MFG
pins: 1, 2

## PCM3060PWR
designator U?
24-bit Asynchronous Stereo Audio Codec with 96/192kHz sampling rate 28-TSSOP -25 to 85; Mfr_Name: Texas Instruments; Interface: Serial,I2C,SPI,2-Wire,3-WIRE; Min Supply Voltage: 4.5V; Operating Supply Voltage: 5V; Max Supply Voltage: 5.5V; Resolution: 24b; Number of A/D Converters: 1; Sampling Rate: 192KS/s; Signal to Noise Ratio (SNR): 99dB; Power Consumption: 160mW; Number of ADC Channels: 2; Copyright: Copyright (C) 2024 Ultra Librarian. All rights reserved.; Manufacturer_Part_Number: PCM3060PWR; RefDes: RefDes; Type: DEV; Supplier 1: Mouser; Manufacturer: Texas Instruments; Manufacturer Part Number: PCM3060PWR; RoHS: Yes; Category: Amplifiers - Audio; Stock 1: 9554; Pricing 1: 1=4.7, 10=4.19, 50=4.19, 100=3.85, 1000=3.08, 10000=2.92 (USD); Case/Package: TSSOP; Pins: 28; Weight: 0.004145oz; Min Operating Temperature: -25°C; Max Operating Temperature: 85°C; Packaging: Tape and Reel; Package Quantity: 2000; Number of D/A Converters: 1; Number of Analog Inputs: 2; Number of DAC Channels: 2; Number of Analog Outputs: 2; Series: -; Radiation Hardening: No; Lead Free: Lead Free; RoHS Compliant: Yes; ComponentLink1URL: https://datasheet.ciiva.com/1693/pcm3060-1693338.pdf?src-supplier=Digikey; ComponentLink1Description: https://datasheet.ciiva.com/1693/pcm3060-1693338.pdf?src-supplier=Digikey; ComponentLink2URL: https://datasheet.ciiva.com/3027/pcm3060-3027369.pdf?src-supplier=Avnet; ComponentLink2Description: https://datasheet.ciiva.com/3027/pcm3060-3027369.pdf?src-supplier=Avnet; Supplier Part Number 1: 595-PCM3060PWR
footprint PW28
pins: 1 MC/SCL/FMT (in), 2 MD/SDA/DEMP (io), 3 DOUT (out), 4 LRCK1 (io), 5 BCK1 (io), 6 SCKI1 (in), 7 VDD (power), 8 LRCK2 (io), 9 DGND (power), 10 DIN (in), 11 SCKI2 (io), 12 ZEROR (out), 13 BCK2 (io), 14 ZEROL (out), 15 *RST (in), 16 SGND (power), 17 VOUTR- (out), 18 VOUTR+ (out), 19 VOUTL- (out), 20 VOUTL+ (out), 21 VCOM (power), 22 AGND2 (power), 23 AGND1 (power), 24 VCC (power), 25 VINL (in), 26 VINR (in), 27 *MS/ADR/IFMD (in), 28 MODE (in)

## PH2-20-UA
designator J?
Conn Unshrouded Header HDR 15 POS 2.54mm Solder ST Thru-Hole Bag; Mfr_Name: ADAM TECHNOLOGIES INC; Manufacturer: Adam Equipment; Number of Positions: 20; Type: DEV; Copyright: Copyright (C) 2024 Ultra Librarian. All rights reserved.; Manufacturer_Part_Number: PH2-20-UA; RefDes: RefDes; Supplier 1: Future Electronics; Manufacturer Part Number: PH2-20-UA; RoHS: Yes; Category: Connectors; Pricing 1: 1000=0.132, 3000=0.128, 5000=0.126, 15000=0.122, 25000=0.119 (USD); Mounting Technology: Through Hole; Contact Plating: Gold; Termination: Solder; Packaging: Bag; Pitch: 2.54mm; Lead Free: Lead Free; ComponentLink1URL: https://datasheet.ciiva.com/16479/page-312-315-16479356.pdf?src-supplier=Future+Electronics; ComponentLink1Description: https://datasheet.ciiva.com/16479/page-312-315-16479356.pdf?src-supplier=Future+Electronics; Supplier Part Number 1: 2074617
footprint CONN_PH2-20-UA_ADM
pins: 1, 2, 3, 4, 5, 6, 7, 8, 9, 10, 11, 12, 13, 14, 15, 16, 17, 18, 19, 20

## SSM3J372R,LF
designator Q?
Mosfet P-ch 30V 6A SOT23F; Mfr_Name: Toshiba Electronic Devices & Storage Corp.; Manufacturer: Toshiba; Type: DEV; Copyright: Copyright (C) 2024 Ultra Librarian. All rights reserved.; Manufacturer_Part_Number: SSM3J372R,LF; RefDes: RefDes; Manufacturer Part Number: SSM3J372R,LF; RoHS: No; Stock 1: 871; Pricing 1: 1=0.3873, 10=0.294, 25=0.2912, 100=0.1497, 250=0.1482, 500=0.0889 (USD); Supplier 1: Mouser; Supplier Part Number 1: 757-SSM3J372RLF
footprint SOT-23F_TOS
pins: 1, 2, 3

## TL072HIDR
designator U?  (value not drawn)
Dual-channel low input bias current standard op amp 8-SOIC -40 to 125; Manufacturer: Texas Instruments; Manufacturer Part Number: TL072HIDR; Supplier 1: Mouser; RoHS: No; Category: Amplifiers - Op Amps, Buffer, Instrumentation; Stock 1: 665; Pricing 1: 1=0.37, 10=0.299, 50=0.299, 100=0.204, 1000=0.125, 10000=0.106 (USD); Supplier Part Number 1: 595-TL072HIDR
footprint D0008A_L (SOIC, 8-Leads, Body 5x4mm, Pitch 1.27mm, IPC High Density)
footprint D0008A_M (SOIC, 8-Leads, Body 5x4mm, Pitch 1.27mm, IPC Low Density)
footprint D0008A_N (SOIC, 8-Leads, Body 5x4mm, Pitch 1.27mm, IPC Medium Density)
part A pins: 1 OUT1 (out), 2 IN1- (in), 3 IN1+ (in), 4 VCC- (power), 8 VCC+ (power)
part B pins: 4 VCC- (power), 5 IN2+ (in), 6 IN2- (in), 7 OUT2 (out), 8 VCC+ (power)